# Altium schematic symbol library Resistors.SchLib: 54 symbols (part 1 of 2)
Pins are listed as number, name and electrical type; pins without a type are passive.

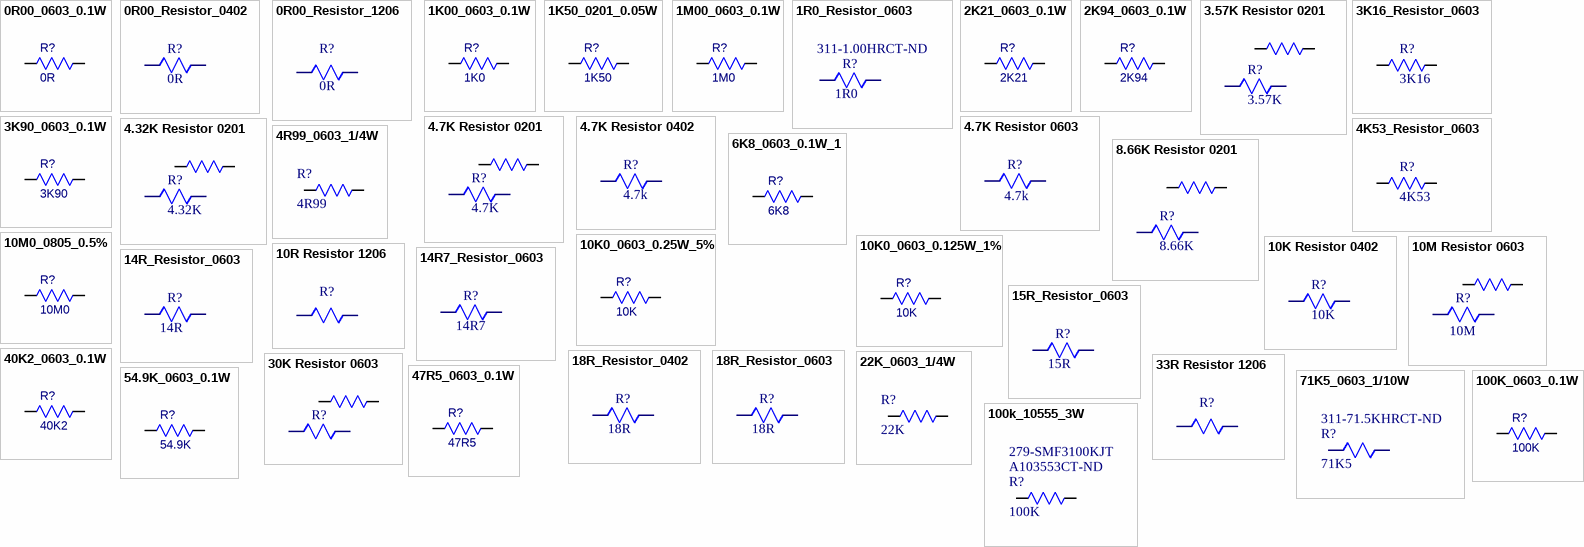
[diagram p0: symbols 0R00_0603_0.1W to 100k_10555_3W]

## 0R00_0603_0.1W
designator R?, comment 0R
RES 0 Ohm JUMPER 0.1W,1/10W 0603; Manufacturer: Panasonic Electronic Components; Manufacturer Part Number: ERJ-3GEY0R00V; Resistance (Ohms): 0.0; ID: 1660684; TZOA PN: 209-00016; Supplier 1: Digi-Key; RoHS: RoHS Compliant; Category: Resistors; Stock 1: 6654719; Pricing 1: 1=0.15, 50=0.019, 100=0.0144, 250=0.01076, 500=0.00794, 1000=0.00529, 2500=0.00446 (CAD); Packaging: Cut Tape (CT); Tolerance: Jumper; Power (Watts): 0.1W, 1/10W; Composition: Thick Film; Features: Automotive AEC-Q200; Temperature Coefficient: -; Operating Temperature: -55°C ~ 155°C; Package / Case: 0603 (1608 Metric); Supplier Device Package: 0603; Size / Dimension: 0.063" L x 0.031" W (1.60mm x 0.80mm); Height: 0.022" (0.55mm); Number of Terminations: 2; ComponentLink1URL: http://industrial.panasonic.com/www-cgi/jvcr13pz.cgi?E+PZ+3+AOA0001+ERJ3GEY0R00V+7+WW; ComponentLink1Description: http://industrial.panasonic.com/www-cgi/jvcr13pz.cgi?E+PZ+3+AOA0001+ERJ3GEY0R00V+7+WW; Supplier 2: Arrow; Stock 2: 305012; Pricing 2: 25000000=0.0021, 50000000=0.0017, 125000000=0.0015, 250000000=0.0014, 625000000=0.0013, 1=0.0023, 25=0.0022 (USD); Package Quantity: 5000; ComponentLink2URL: https://www.arrow.com/en/products/erj3gey0r00v/panasonic/; ComponentLink2Description: https://www.arrow.com/en/products/erj3gey0r00v/panasonic/; Supplier Part Number 1: P0.0GCT-ND; Supplier Part Number 2: ELJD7s1ivwFgYEvemdIWr54eAKhco_O-ofROvxt02Qc
footprint 0603_Resistor (Generic 0603 Surface Mount Resistor)
footprint R1608[0603] small
pins: 1, 2

## 0R00_Resistor_0402
designator R?, comment 0R
RES 0.0 Ohn Jumper 1/16W 0402; Manufacturer: Philips Mepco; Manufacturer Part Number: RC0402JR-070RL; TZOA PN: 209-; Rad Hard: No; Resistance Value: 0 Ohm; Case Style: Molded; Lead Finish: Matte Tin; Supplier 1: Digi-Key; Stock 1: 12066678; Pricing 1: 1=0.1, 10=0.01, 25=0.0068, 50=0.0052, 100=0.0038, 250=0.0029, 500=0.0023, 1000=0.0017, 5000=0.0012 (USD); Case Size: 0402; Type: Thick Film; Operating Temperature: -55 to 155 °C; Category: Resistor Fixed Single-Surface Mount; ComponentLink1URL: https://datasheet.ciiva.com/25906/pyu-rc0402-51-rohs-l-6-25906910.pdf; ComponentLink1Description: https://datasheet.ciiva.com/25906/pyu-rc0402-51-rohs-l-6-25906910.pdf; Supplier Part Number 1: 311-0.0JRCT-ND
footprint 0402 RESISTOR
pins: 1, 2

## 0R00_Resistor_1206
designator R?, comment 0R
RES 0.0 Ohm Jumper 3/4W 1206; Manufacturer: Vishay Dale; Manufacturer Part Number: CRCW12060000Z0EAHP; TZOA PN: 209-00008; Product Training Modules: CRCW-HP Thick Film Chip Resistors; Catalog Drawings: CRCW-HP-402, 603, 805, 1206, 2010, 2512 Top CRCW HP 402, 603, 805, 1206, 2010, 2512 Side; Featured Product: CRCW-HP Series Resistors; EDA / CAD Models: Download from Accelerated Designs; Resistance (Ohms): 0.0; Power (Watts): 0.75W, 3/4W; Online Catalog: CRCW-HP e3 Automotive Series; Other Names: 541-0.0UBCT; Supplier 1: Digi-Key; Stock 1: 0; Pricing 1: 1=0.38, 10=0.275, 25=0.2032, 50=0.15, 100=0.1101, 250=0.0909, 500=0.075, 1000=0.0542 (USD); Standard Package: 1; Category: Resistors; Family: Chip Resistor - Surface Mount; Series: CRCW-HP; Packaging: Cut Tape (CT); Tolerance: Jumper; Composition: Thick Film; Features: Automotive AEC-Q200, Pulse Withstanding; Temperature Coefficient: -; Operating Temperature: -55°C ~ 155°C; Package / Case: 1206 (3216 Metric); Supplier Device Package: 1206 (3216 Metric); Size / Dimension: 0.122" L x 0.063" W (3.10mm x 1.60mm); Height: 0.026" (0.65mm); Number of Terminations: 2; ComponentLink1URL: https://datasheet.ciiva.com/7657/1693067-7657105.pdf; ComponentLink1Description: https://datasheet.ciiva.com/7657/1693067-7657105.pdf; ComponentLink2URL: https://datasheet.ciiva.com/2480/crcwhpe3-2480071.pdf; ComponentLink2Description: https://datasheet.ciiva.com/2480/crcwhpe3-2480071.pdf; ComponentLink3URL: https://datasheet.ciiva.com/2480/crcwhpe3-2480072.pdf; ComponentLink3Description: https://datasheet.ciiva.com/2480/crcwhpe3-2480072.pdf; ComponentLink4URL: https://datasheet.ciiva.com/5550/crcwhpe3-46056-5550920.pdf; ComponentLink4Description: https://datasheet.ciiva.com/5550/crcwhpe3-46056-5550920.pdf; ComponentLink5URL: https://datasheet.ciiva.com/2480/crcwhpe3-2480073.pdf; ComponentLink5Description: https://datasheet.ciiva.com/2480/crcwhpe3-2480073.pdf; ComponentLink6URL: https://datasheet.ciiva.com/7694/1750852-7694953.pdf; ComponentLink6Description: https://datasheet.ciiva.com/7694/1750852-7694953.pdf; ComponentLink7URL: https://datasheet.ciiva.com/9109/crcwhpe3-9109979.pdf; ComponentLink7Description: https://datasheet.ciiva.com/9109/crcwhpe3-9109979.pdf; ComponentLink8URL: https://datasheet.ciiva.com/28621/1912814-28621467.pdf; ComponentLink8Description: https://datasheet.ciiva.com/28621/1912814-28621467.pdf; Supplier Part Number 1: 541-0.0UBCT-ND
footprint 1206
pins: 1, 2

## 1K00_0603_0.1W
designator R?, comment 1K0
RES 1K Ohm ±5%, 0.25W,1/4W 0603; Manufacturer: Rohm; Manufacturer Part Number: ESR03EZPJ102; TZOA PN: 209-00007; Product Training Modules: Resistor Products Overview; Featured Product: ROHM Chip Resistors; EDA / CAD Models: Download from Accelerated Designs; Temperature Coefficient: ±200ppm/°C; Online Catalog: ESR03 Series; Other Names: RHM1.0KDDKR; Supplier 1: Digi-Key; Stock 1: 63701; Pricing 1: 1=0.11, 10=0.098, 100=0.0378, 1000=0.0166, 2500=0.0144 (USD); Standard Package: 1; Category: Resistors; Family: Chip Resistor - Surface Mount; Series: ESR; Packaging: Cut Tape (CT); Resistance (Ohms): 1k; Tolerance: ±5%; Power (Watts): 0.25W, 1/4W; Composition: Thick Film; Features: Automotive AEC-Q200, Pulse Withstanding; Operating Temperature: -55°C ~ 155°C; Package / Case: 0603 (1608 Metric); Supplier Device Package: 0603 (1608 Metric); Size / Dimension: 0.063" L x 0.031" W (1.60mm x 0.80mm); Height: 0.022" (0.55mm); Number of Terminations: 2; ComponentLink1URL: https://datasheet.ciiva.com/2469/esr-2469603.pdf; ComponentLink1Description: https://datasheet.ciiva.com/2469/esr-2469603.pdf; ComponentLink2URL: https://datasheet.ciiva.com/2469/esr-2469604.pdf; ComponentLink2Description: https://datasheet.ciiva.com/2469/esr-2469604.pdf; ComponentLink3URL: https://datasheet.ciiva.com/2469/esr-2469605.pdf; ComponentLink3Description: https://datasheet.ciiva.com/2469/esr-2469605.pdf; Supplier Part Number 1: RHM1.0KDCT-ND
footprint R1608[0603]
footprint R1608[0603] small
pins: 1, 2

## 1K50_0201_0.05W
designator R?, comment 1K50
RES 1.5K ±5% 1/20W 0201; Manufacturer: Panasonic Electronic Components; Manufacturer Part Number: ERJ-1GEJ152C; Power (Watts): 0.05W, 1/20W; Temperature Coefficient: ±200ppm/°C; TZOA PN: 209-; Supplier 1: Digi-Key; Supplier Part Number 1: P1.5KAGCT-ND; RoHS: RoHS Compliant; Category: Resistors; Stock: 288121; Pricing: 1=0.15, 50=0.0358, 100=0.0263, 250=0.02008, 500=0.0161, 1000=0.01184, 5000=0.00849 (CAD); Packaging: Cut Tape (CT); Part Status: Active; Resistance (Ohms): 1.5k; Tolerance: ±5%; Composition: Thick Film; Features: -; Operating Temperature: -55°C ~ 125°C; Package / Case: 0201 (0603 Metric); Supplier Device Package: 0201; Size / Dimension: 0.024" L x 0.012" W (0.60mm x 0.30mm); Height: 0.010" (0.26mm); Number of Terminations: 2; Failure Rate: -; ComponentLink1URL: http://media.digikey.com/pdf/Data%20Sheets/Panasonic%20Resistors%20Thermistors%20PDFs/ERJ%205%25.pdf; ComponentLink1Description: http://media.digikey.com/pdf/Data%20Sheets/Panasonic%20Resistors%20Thermistors%20PDFs/ERJ%205%25.pdf
footprint R1005[0402] (Resistor 1005[0402])
pins: 1, 2

## 1M00_0603_0.1W
designator R?, comment 1M0
RES 1M ±1% 1/10W 0603; Manufacturer: Vishay Beyschlag; Manufacturer Part Number: MCT06030C1004FP500; Power (Watts): 0.125W, 1/8W; Temperature Coefficient: ±50ppm/°C; ID: 2455687; TZOA PN: 209-; Supplier 1: Digi-Key; Supplier Part Number 1: MCT0603-1.00M-CFCT-ND; RoHS: RoHS Compliant; Category: Resistors; Stock: 44405; Pricing: 1=0.26, 10=0.218, 25=0.1588, 50=0.115, 100=0.0853, 250=0.06544, 500=0.05156, 1000=0.03569, 2500=0.03272 (CAD); Packaging: Cut Tape (CT); Tolerance: ±1%; Composition: Thin Film; Features: -; Operating Temperature: -55°C ~ 155°C; Package / Case: 0603 (1608 Metric); Supplier Device Package: 0603; Size / Dimension: 0.061" L x 0.033" W (1.55mm x 0.85mm); Height: 0.022" (0.55mm); Number of Terminations: 2; ComponentLink1URL: http://www.vishay.com/docs/28705/mcx0x0xpro.pdf; ComponentLink1Description: http://www.vishay.com/docs/28705/mcx0x0xpro.pdf; Supplier 2: Arrow; Supplier Part Number 2: sbG3LrZuPBUnByQqwEaRe1CpKCfkgSisGy_5THlLRf2dBM103lIuVfYsfIxZ6Dmo; Package Quantity: 5000; ComponentLink2URL: https://www.arrow.com/en/products/mct06030c1004fp500/vishay/; ComponentLink2Description: https://www.arrow.com/en/products/mct06030c1004fp500/vishay/; Resistance (Ohms): 1M
footprint 0603_Resistor (Generic 0603 Surface Mount Resistor)
pins: 1, 2

## 1R0_Resistor_0603
designator R?, comment 1R0  Supplier Part Number 1: 311-1.00HRCT-ND
RES 1.0 Ohm ±1% 0.1W,1/10W 0603; Manufacturer: Yageo; Manufacturer Part Number: RC0603FR-071RL; TZOA PN: 209-00013; Resistance: 1 Ohms; Power Rating: 100 mW; Voltage Rating: 50 V; Temperature Coefficient: 200 PPM / C; Supplier 1: Digi-Key; Stock 1: 1852120; Pricing 1: 1=0.1, 10=0.022, 100=0.009, 1000=0.004, 2500=0.0035 (USD); Termination Style: SMD/SMT; Product: Thick Film Resistors General Purpose; Tolerance: 1 %; Case Code - in: 0603; Case Code - mm: 1608; Series: RC; Operating Temperature Range: - 55 C to + 155 C; Packaging: Cut Tape (CT); ComponentLink1URL: https://datasheet.ciiva.com/11808/0900766b80f96399-11808162.pdf; ComponentLink1Description: https://datasheet.ciiva.com/11808/0900766b80f96399-11808162.pdf; ComponentLink2URL: https://datasheet.ciiva.com/6547/pyu-r-int-thick-7-6547269.pdf; ComponentLink2Description: https://datasheet.ciiva.com/6547/pyu-r-int-thick-7-6547269.pdf; ComponentLink3URL: https://datasheet.ciiva.com/6547/pyu-r-int-thick-7-6547270.pdf; ComponentLink3Description: https://datasheet.ciiva.com/6547/pyu-r-int-thick-7-6547270.pdf; ComponentLink4URL: https://datasheet.ciiva.com/6547/pyu-r-int-thick-7-6547271.pdf; ComponentLink4Description: https://datasheet.ciiva.com/6547/pyu-r-int-thick-7-6547271.pdf; ComponentLink5URL: https://datasheet.ciiva.com/7746/1738695-7746296.pdf; ComponentLink5Description: https://datasheet.ciiva.com/7746/1738695-7746296.pdf; ComponentLink6URL: https://datasheet.ciiva.com/7746/1738695-7746297.pdf; ComponentLink6Description: https://datasheet.ciiva.com/7746/1738695-7746297.pdf
footprint R1608[0603]
footprint R1608[0603] small
pins: 1, 2

## 2K21_0603_0.1W
designator R?, comment 2K21
RES 2.21K Ohm ±1% 0.1W,1/10W 0603; Manufacturer: Yageo; Manufacturer Part Number: RC0603FR-072K21L; Tolerance: Jumper; ID: 1660684; TZOA PN: 209-00010; Supplier 1: Digi-Key; RoHS: RoHS Compliant; Category: Resistors; Pricing 1: 1=0.15, 50=0.019, 100=0.0144, 250=0.01076, 500=0.00794, 1000=0.00529, 2500=0.00446 (CAD); Packaging: Cut Tape (CT); Resistance (Ohms): 2.21K; Power (Watts): 0.1W, 1/10W; Composition: Thick Film; Features: Automotive AEC-Q200; Temperature Coefficient: -; Operating Temperature: -55°C ~ 155°C; Package / Case: 0603 (1608 Metric); Supplier Device Package: 0603; Size / Dimension: 0.063" L x 0.031" W (1.60mm x 0.80mm); Height: 0.022" (0.55mm); Number of Terminations: 2; Supplier 2: Arrow; Pricing 2: 25000000=0.0021, 50000000=0.0017, 125000000=0.0015, 250000000=0.0014, 625000000=0.0013, 1=0.0023, 25=0.0022 (USD); Package Quantity: 5000; Supplier Part Number 1: 311-2.21KHRCT-ND
footprint R1608[0603]
footprint R1608[0603] small
pins: 1, 2

## 2K94_0603_0.1W
designator R?, comment 2K94
RES 2.94K 1% 1/10W 0603; Manufacturer: Yageo; Manufacturer Part Number: RC0603FR-07294KL; TZOA PN: 209-; Resistance: 294 kOhms; Power Rating: 100 mW; Temperature Coefficient: 100 PPM / C; Voltage Rating: 75 V; Unit Weight: 0.000071 oz; Supplier 1: Digi-Key; Stock 1: 49374; Pricing 1: 1=0.1, 10=0.015, 100=0.006, 1000=0.0027, 2500=0.0023 (USD); Product Category: Thick Film Resistors; RoHS: True; Brand: Yageo; Tolerance: 1 %; Case Code - in: 0603; Case Code - mm: 1608; Operating Temperature Range: - 55 C to + 155 C; Series: RC; Height: 0.45 mm; Length: 1.6 mm; Package / Case: 0603 (1608 metric); Packaging: Cut Tape (CT); Product: Thick Film Resistors General Purpose; Termination Style: SMD/SMT; Type: General Purpose Chip Resistor Surface Mount; Width: 0.8 mm; ComponentLink1URL: https://datasheet.ciiva.com/2455/pyu-r-int-thick-7-2455212.pdf; ComponentLink1Description: https://datasheet.ciiva.com/2455/pyu-r-int-thick-7-2455212.pdf; ComponentLink2URL: https://datasheet.ciiva.com/2455/pyu-r-int-thick-7-2455213.pdf; ComponentLink2Description: https://datasheet.ciiva.com/2455/pyu-r-int-thick-7-2455213.pdf; ComponentLink3URL: https://datasheet.ciiva.com/2455/pyu-r-int-thick-7-2455214.pdf; ComponentLink3Description: https://datasheet.ciiva.com/2455/pyu-r-int-thick-7-2455214.pdf; Supplier Part Number 1: 311-294KHRCT-ND
footprint 0201 RESISTOR
pins: 1, 2

## 3.57K Resistor 0201
designator R?, comment 3.57K
Manufacturer: Panasonic Electronic Components; Manufacturer Part Number: ERJ-1GEF3571C; Tolerance: ±1%; Power (Watts): 0.05W, 1/20W; Temperature Coefficient: ±200ppm/°C; Supplier 1: Digi-Key; Supplier Part Number 1: P3.57KABCT-ND; RoHS: RoHS Compliant; Category: Resistors; Stock: 38821; Pricing: 1=0.15, 50=0.0424, 100=0.0313, 250=0.02384, 500=0.01908, 1000=0.01403, 5000=0.01006 (CAD); Packaging: Cut Tape (CT); Part Status: Active; Resistance (Ohms): 3.57k; Composition: Thick Film; Features: -; Operating Temperature: -55°C ~ 125°C; Package / Case: 0201 (0603 Metric); Supplier Device Package: 0201; Size / Dimension: 0.024" L x 0.012" W (0.60mm x 0.30mm); Height: 0.010" (0.26mm); Number of Terminations: 2; Failure Rate: -; ComponentLink1URL: http://media.digikey.com/pdf/Data%20Sheets/Panasonic%20Resistors%20Thermistors%20PDFs/ERJ_G,R,E_Rev08.pdf; ComponentLink1Description: http://media.digikey.com/pdf/Data%20Sheets/Panasonic%20Resistors%20Thermistors%20PDFs/ERJ_G,R,E_Rev08.pdf
footprint 0201 RESISTOR
pins: 1, 1, 2, 2

## 3K16_Resistor_0603
designator R?, comment 3K16
Res,SMD,1/10W,3K16,0603,1%; Supplier 1: Arrow; Supplier 2: Digi-Key; Supplier Part Number 1: RMCF0603FT3K16; Supplier Part Number 2: RMCF0603FT3K16CT-ND
footprint R1608[0603] small
pins: 1, 2

## 3K90_0603_0.1W
designator R?, comment 3K90
RES 3.9K Ohm ±1% 0.1W,1/10W 0603; Manufacturer: Yageo; Manufacturer Part Number: RC0603FR-073K9L; TZOA PN: 209-00006; Voltage Rating: 50V; Resistor Case Style: 0603 [1608 Metric]; Power Rating: 100mW; Product Range: RC Series; Resistor Element Type: Thick Film; Temperature Coefficient: ± 100ppm/°C; SVHC: To Be Advised; Supplier 1: Digi-Key; Stock 1: 730672; Pricing 1: 1=0.1, 10=0.015, 100=0.006, 1000=0.0027, 2500=0.0023 (USD); Resistance: 3.9kohm; Resistance Tolerance: ± 1%; Packaging: Cut Tape; Automotive Qualification Standard: -; MSL: MSL 1 - Unlimited; ComponentLink1URL: https://datasheet.ciiva.com/2455/pyu-r-int-thick-7-2455362.pdf; ComponentLink1Description: https://datasheet.ciiva.com/2455/pyu-r-int-thick-7-2455362.pdf; ComponentLink2URL: https://datasheet.ciiva.com/11819/0900766b80f96399-11819346.pdf; ComponentLink2Description: https://datasheet.ciiva.com/11819/0900766b80f96399-11819346.pdf; ComponentLink3URL: https://datasheet.ciiva.com/2455/pyu-r-int-thick-7-2455363.pdf; ComponentLink3Description: https://datasheet.ciiva.com/2455/pyu-r-int-thick-7-2455363.pdf; ComponentLink4URL: https://datasheet.ciiva.com/2455/pyu-r-int-thick-7-2455364.pdf; ComponentLink4Description: https://datasheet.ciiva.com/2455/pyu-r-int-thick-7-2455364.pdf; ComponentLink5URL: https://datasheet.ciiva.com/7983/443971-7983640.pdf; ComponentLink5Description: https://datasheet.ciiva.com/7983/443971-7983640.pdf; ComponentLink6URL: https://datasheet.ciiva.com/12558/rc0603-272842-12558649.pdf; ComponentLink6Description: https://datasheet.ciiva.com/12558/rc0603-272842-12558649.pdf; ComponentLink7URL: https://datasheet.ciiva.com/7746/443971-7746347.pdf; ComponentLink7Description: https://datasheet.ciiva.com/7746/443971-7746347.pdf; ComponentLink8URL: https://datasheet.ciiva.com/7746/443971-7746348.pdf; ComponentLink8Description: https://datasheet.ciiva.com/7746/443971-7746348.pdf; ComponentLink9URL: https://datasheet.ciiva.com/15189/getdatasheetpartid-323794-15189725.pdf; ComponentLink9Description: https://datasheet.ciiva.com/15189/getdatasheetpartid-323794-15189725.pdf; Supplier Part Number 1: 311-3.90KHRCT-ND
footprint R1608[0603]
footprint R1608[0603] small
pins: 1, 2

## 4.7K Resistor 0201
designator R?, comment 4.7K
Manufacturer: Panasonic Electronic Components; Manufacturer Part Number: ERJ-1GNJ472C; Tolerance: ±5%; Power (Watts): 0.05W, 1/20W; Temperature Coefficient: ±200ppm/°C; Supplier 1: Digi-Key; Supplier Part Number 1: P4.7AECT-ND; RoHS: RoHS Compliant; Category: Resistors; Stock: 201745; Pricing: 1=0.15, 50=0.0292, 100=0.0215, 250=0.01636, 500=0.01312, 1000=0.00964, 5000=0.00692 (CAD); Packaging: Cut Tape (CT); Part Status: Active; Resistance (Ohms): 4.7k; Composition: Thick Film; Features: Automotive AEC-Q200; Operating Temperature: -55°C ~ 125°C; Package / Case: 0201 (0603 Metric); Supplier Device Package: 0201; Size / Dimension: 0.024" L x 0.012" W (0.60mm x 0.30mm); Height: 0.010" (0.26mm); Number of Terminations: 2; Failure Rate: -; ComponentLink1URL: http://industrial.panasonic.com/www-cgi/jvcr13pz.cgi?E+PZ+3+AOA0002+ERJ1GNJ472C+7+WW; ComponentLink1Description: http://industrial.panasonic.com/www-cgi/jvcr13pz.cgi?E+PZ+3+AOA0002+ERJ1GNJ472C+7+WW
footprint 0201 RESISTOR
pins: 1, 1, 2, 2

## 4.7K Resistor 0402
designator R?, comment 4.7k
Thick Film Resistor; Manufacturer: Panasonic Electronic Components; Manufacturer Part Number: ERJ-2RKF4701X; Tolerance: ±1%; Power (Watts): 0.1W, 1/10W; Temperature Coefficient: ±100ppm/°C; Supplier 1: Digi-Key; Supplier Part Number 1: P4.70KLCT-ND; RoHS: RoHS Compliant; Category: Resistors; Stock: 1564275; Pricing: 1=0.15, 50=0.0226, 100=0.0166, 250=0.01264, 500=0.01014, 1000=0.00746, 5000=0.00535 (CAD); Packaging: Cut Tape (CT); Part Status: Active; Resistance (Ohms): 4.7k; Composition: Thick Film; Features: Automotive AEC-Q200; Operating Temperature: -55°C ~ 155°C; Package / Case: 0402 (1005 Metric); Supplier Device Package: 0402; Size / Dimension: 0.039" L x 0.020" W (1.00mm x 0.50mm); Height: 0.016" (0.40mm); Number of Terminations: 2; Failure Rate: -; ComponentLink1URL: http://industrial.panasonic.com/www-cgi/jvcr13pz.cgi?E+PZ+3+AOA0002+ERJ2RKF4701X+7+WW; ComponentLink1Description: http://industrial.panasonic.com/www-cgi/jvcr13pz.cgi?E+PZ+3+AOA0002+ERJ2RKF4701X+7+WW
footprint 0402 RESISTOR
pins: 1, 2

## 4.7K Resistor 0603
designator R?  Resistance (Ohms): 4.7k  (hidden comment: *)
Thick Film Resistor; Manufacturer: Panasonic Electronic Components; Manufacturer Part Number: ERJ-PA3J103V; Tolerance: ±5%; Power (Watts): 0.25W, 1/4W; Temperature Coefficient: ±200ppm/°C; ID: 24182372; RoHS: RoHS Compliant; Category: Resistors; Packaging: Cut Tape (CT); Composition: Thick Film; Features: Automotive AEC-Q200, Pulse Withstanding; Operating Temperature: -55°C ~ 155°C; Package / Case: 0603 (1608 Metric); Supplier Device Package: 0603; Size / Dimension: 0.063" L x 0.031" W (1.60mm x 0.80mm); Height: 0.018" (0.45mm); Number of Terminations: 2; ComponentLink1URL: http://media.digikey.com/pdf/Data%20Sheets/Panasonic%20Electronic%20Components/ERJ_PA2_P03_PA3_P06_P08_P14.pdf; ComponentLink1Description: http://media.digikey.com/pdf/Data%20Sheets/Panasonic%20Electronic%20Components/ERJ_PA2_P03_PA3_P06_P08_P14.pdf; Package Quantity: 1; ComponentLink2URL: https://www.arrow.com/en/products/erj-pa3j103v/panasonic/; ComponentLink2Description: https://www.arrow.com/en/products/erj-pa3j103v/panasonic/; Supplier 1: Digi-Key; Supplier Part Number 1: P4.70KHCT-ND
footprint 0603 Resistor
pins: 1, 2

## 4.32K Resistor 0201
designator R?, comment 4.32K
Manufacturer: Panasonic Electronic Components; Manufacturer Part Number: ERJ-1GEF4321C; Tolerance: ±1%; Power (Watts): 0.05W, 1/20W; Temperature Coefficient: ±200ppm/°C; Supplier 1: Digi-Key; Supplier Part Number 1: P4.32KABCT-ND; RoHS: RoHS Compliant; Category: Resistors; Stock: 52062; Pricing: 1=0.15, 50=0.0424, 100=0.0313, 250=0.02384, 500=0.01908, 1000=0.01403, 5000=0.01006 (CAD); Packaging: Cut Tape (CT); Part Status: Active; Resistance (Ohms): 4.32k; Composition: Thick Film; Features: -; Operating Temperature: -55°C ~ 125°C; Package / Case: 0201 (0603 Metric); Supplier Device Package: 0201; Size / Dimension: 0.024" L x 0.012" W (0.60mm x 0.30mm); Height: 0.010" (0.26mm); Number of Terminations: 2; Failure Rate: -; ComponentLink1URL: http://media.digikey.com/pdf/Data%20Sheets/Panasonic%20Resistors%20Thermistors%20PDFs/ERJ_G,R,E_Rev08.pdf; ComponentLink1Description: http://media.digikey.com/pdf/Data%20Sheets/Panasonic%20Resistors%20Thermistors%20PDFs/ERJ_G,R,E_Rev08.pdf
footprint 0201 RESISTOR
pins: 1, 1, 2, 2

## 4K53_Resistor_0603
designator R?, comment 4K53
Res,SMD,4K53,1/10W,1%,0603; Supplier 1: Arrow; Supplier 2: Digi-Key; Supplier Part Number 1: RC0603FR-074K53L; Supplier Part Number 2: 311-4.53KHRCT-ND
footprint R1608[0603] small
pins: 1, 2

## 4R99_0603_1/4W
designator R?, comment 4R99
Res,SMD,4R99,1/4W,5%
footprint R1608[0603]
pins: 1, 2

## 6K8_0603_0.1W_1
designator R?, comment 6K8
Res,SMD,1/10W,6K8,0603,1%; Manufacturer: Yageo; Manufacturer Part Number: RC0603FR-07680KL; Voltage Rating: 50 V; Temperature Coefficient: 100 PPM / C; Resistance: 680 kOhms; Power Rating: 100 mW; Termination Style: SMD/SMT; Tolerance: 1 %; Supplier 1: Digikey; Stock 1: 238323; Pricing 1: 1=0.1, 10=0.015, 100=0.006, 1000=0.0027, 2500=0.0023 (USD); Product: Thick Film Resistors General Purpose; Case Code - in: 0603; Case Code - mm: 1608; Series: RC; Operating Temperature Range: - 55 C to + 155 C; Packaging: Cut tape; ComponentLink1URL: https://datasheet.ciiva.com/2519/pyu-r-int-thick-7-2519200.pdf; ComponentLink1Description: https://datasheet.ciiva.com/2519/pyu-r-int-thick-7-2519200.pdf; ComponentLink2URL: https://datasheet.ciiva.com/11808/0900766b80f96399-11808403.pdf; ComponentLink2Description: https://datasheet.ciiva.com/11808/0900766b80f96399-11808403.pdf; ComponentLink3URL: https://datasheet.ciiva.com/15189/getdatasheetpartid-323816-15189798.pdf; ComponentLink3Description: https://datasheet.ciiva.com/15189/getdatasheetpartid-323816-15189798.pdf; ComponentLink4URL: https://datasheet.ciiva.com/2519/pyu-r-int-thick-7-2519198.pdf; ComponentLink4Description: https://datasheet.ciiva.com/2519/pyu-r-int-thick-7-2519198.pdf; ComponentLink5URL: https://datasheet.ciiva.com/2519/pyu-r-int-thick-7-2519199.pdf; ComponentLink5Description: https://datasheet.ciiva.com/2519/pyu-r-int-thick-7-2519199.pdf; ComponentLink6URL: https://datasheet.ciiva.com/46440/1868787-46440911.pdf; ComponentLink6Description: https://datasheet.ciiva.com/46440/1868787-46440911.pdf; Supplier Part Number 1: 311-680KHRCT-ND
footprint R1608[0603]
pins: 1, 2

## 8.66K Resistor 0201
designator R?, comment 8.66K
Manufacturer: Panasonic Electronic Components; Manufacturer Part Number: ERJ-1GEF8661C; Tolerance: ±1%; Power (Watts): 0.05W, 1/20W; Temperature Coefficient: ±200ppm/°C; Supplier 1: Digi-Key; Supplier Part Number 1: P8.66KABCT-ND; RoHS: RoHS Compliant; Category: Resistors; Stock: 45462; Pricing: 1=0.15, 50=0.0424, 100=0.0313, 250=0.02384, 500=0.01908, 1000=0.01403, 5000=0.01006 (CAD); Packaging: Cut Tape (CT); Part Status: Active; Resistance (Ohms): 8.66k; Composition: Thick Film; Features: -; Operating Temperature: -55°C ~ 125°C; Package / Case: 0201 (0603 Metric); Supplier Device Package: 0201; Size / Dimension: 0.024" L x 0.012" W (0.60mm x 0.30mm); Height: 0.010" (0.26mm); Number of Terminations: 2; Failure Rate: -; ComponentLink1URL: http://media.digikey.com/pdf/Data%20Sheets/Panasonic%20Resistors%20Thermistors%20PDFs/ERJ_G,R,E_Rev08.pdf; ComponentLink1Description: http://media.digikey.com/pdf/Data%20Sheets/Panasonic%20Resistors%20Thermistors%20PDFs/ERJ_G,R,E_Rev08.pdf
footprint 0201 RESISTOR
pins: 1, 1, 2, 2

## 10K0_0603_0.25W_5%
designator R?, comment 10K
RES 10K Ohm ±5% 0.25W,1/4W 0603; Manufacturer: Panasonic; Manufacturer Part Number: ERJ-PA3J103V; TZOA PN: 209-00002; Temperature Coefficient: ±200ppm/°C; Supplier 1: Digi-Key; Stock 1: 95; Pricing 1: 1=0.11, 10=0.1, 100=0.0384, 1000=0.0169, 2500=0.0146 (USD); Category: Resistors; Family: Chip Resistor - Surface Mount; Series: ERJ; Packaging: Cut Tape (CT); Resistance (Ohms): 10k; Tolerance: ±5%; Power (Watts): 0.25W, 1/4W; Composition: Thick Film; Features: Automotive AEC-Q200, Pulse Withstanding; Operating Temperature: -55°C ~ 155°C; Package / Case: 0603 (1608 Metric); Supplier Device Package: 0603; Size / Dimension: 0.063" L x 0.031" W (1.60mm x 0.80mm); Height: 0.018" (0.45mm); Number of Terminations: 2; Supplier Part Number 1: P10KBZCT-ND
footprint R1608[0603]
footprint R1608[0603] small
pins: 1, 2

## 10K0_0603_0.125W_1%
designator R?, comment 10K
RES 10K Ohm ±1%  0.125W,1/8W 0603; Manufacturer: Stackpole Electronics; Manufacturer Part Number: RNCP0603FTD10K0; TZOA PN: 209-00018; Temperature Coefficient: ±100ppm/°C; Supplier 1: Digi-Key; Stock 1: 152748; Pricing 1: 1=0.1, 10=0.03, 100=0.0123, 1000=0.0055, 2500=0.0048 (USD); Category: Resistors; Family: Chip Resistor - Surface Mount; Series: RNCP; Packaging: Cut Tape (CT); Resistance (Ohms): 10k; Tolerance: ±1%; Power (Watts): 0.125W, 1/8W; Composition: Thin Film; Features: Anti-Sulfur, Moisture Resistant; Operating Temperature: -55°C ~ 155°C; Package / Case: 0603 (1608 Metric); Supplier Device Package: 0603; Size / Dimension: 0.059" L x 0.031" W (1.50mm x 0.80mm); Height: 0.020" (0.50mm); Number of Terminations: 2; ComponentLink1URL: https://www.seielect.com/Catalog/SEI-rncp.pdf; ComponentLink1Description: https://www.seielect.com/Catalog/SEI-rncp.pdf; Supplier Part Number 1: RNCP0603FTD10K0CT-ND
footprint R1608[0603]
footprint R1608[0603] small
pins: 1, 2

## 10K Resistor 0402
designator R?, comment 10K
RES 10K 1% 1/16W 0402; Manufacturer: Yageo; Manufacturer Part Number: RC0402FR-0710KL; Resistance: 10 kOhms; Power Rating: 62.5 mW (1/16 W); Voltage Rating: 50 V; Temperature Coefficient: 100 PPM / C; Supplier 1: Digi-Key; Stock 1: 14322538; Pricing 1: 1=0.1, 10=0.014, 100=0.0056, 1000=0.0025, 2500=0.0022, 5000=0.0018 (USD); Termination Style: SMD/SMT; Product: Thick Film Resistors General Purpose; Tolerance: 1 %; Case Code - in: 0402; Case Code - mm: 1005; Series: RC; Operating Temperature Range: - 55 C to + 155 C; Packaging: Cut Tape (CT); ComponentLink1URL: https://datasheet.ciiva.com/7660/38568-7660787.pdf; ComponentLink1Description: https://datasheet.ciiva.com/7660/38568-7660787.pdf; ComponentLink2URL: https://datasheet.ciiva.com/7849/1784430-7849813.pdf; ComponentLink2Description: https://datasheet.ciiva.com/7849/1784430-7849813.pdf; ComponentLink3URL: https://datasheet.ciiva.com/11808/0900766b80c66297-11808309.pdf; ComponentLink3Description: https://datasheet.ciiva.com/11808/0900766b80c66297-11808309.pdf; ComponentLink4URL: https://datasheet.ciiva.com/16744/pyu-rc0402-51-rohs-l-6-r-16744005.pdf; ComponentLink4Description: https://datasheet.ciiva.com/16744/pyu-rc0402-51-rohs-l-6-r-16744005.pdf; ComponentLink5URL: https://datasheet.ciiva.com/7849/1686128-7849814.pdf; ComponentLink5Description: https://datasheet.ciiva.com/7849/1686128-7849814.pdf; ComponentLink6URL: https://datasheet.ciiva.com/7849/1784430-7849815.pdf; ComponentLink6Description: https://datasheet.ciiva.com/7849/1784430-7849815.pdf; ComponentLink7URL: https://datasheet.ciiva.com/22747/1018594-22747512.pdf; ComponentLink7Description: https://datasheet.ciiva.com/22747/1018594-22747512.pdf; ComponentLink8URL: https://datasheet.ciiva.com/12667/pyu-rc0402-51-rohs-l-6-r-12667067.pdf; ComponentLink8Description: https://datasheet.ciiva.com/12667/pyu-rc0402-51-rohs-l-6-r-12667067.pdf; ComponentLink9URL: https://datasheet.ciiva.com/7983/1018594-7983486.pdf; ComponentLink9Description: https://datasheet.ciiva.com/7983/1018594-7983486.pdf; Supplier Part Number 1: 311-10.0KLRCT-ND
footprint 0402 RESISTOR
pins: 1, 2

## 10M0_0805_0.5%
designator R?, comment 10M0
RES 10M Ohm ±1% 0.125W,1/8W 0805; Manufacturer: Vishay Dale; Manufacturer Part Number: CRCW080510M0DHEAP; Tolerance: ±0.5%; Temperature Coefficient: ±50ppm/°C; TZOA PN: 209-00003; Supplier 1: Digi-Key; Supplier Part Number 1: 541-10MAZCT-ND; RoHS: RoHS Compliant; Category: Resistors; Stock: 830; Pricing: 1=0.44, 10=0.364, 25=0.2644, 50=0.1916, 100=0.1421, 250=0.10904, 500=0.08592, 1000=0.05948, 2500=0.05452 (CAD); Packaging: Cut Tape (CT); Power (Watts): 0.125W, 1/8W; Composition: Thick Film; Features: Automotive AEC-Q200; Operating Temperature: -55°C ~ 155°C; Package / Case: 0805 (2012 Metric); Supplier Device Package: 0805; Size / Dimension: 0.079" L x 0.049" W (2.00mm x 1.25mm); Height: 0.020" (0.50mm); Number of Terminations: 2; ComponentLink1URL: http://www.vishay.com/docs/20036/dcrcwpe3.pdf; ComponentLink1Description: http://www.vishay.com/docs/20036/dcrcwpe3.pdf; Resistance (Ohms): 10M
footprint R2012[0805]_ANLG (3DModel=0805.ogl)
pins: 1, 2

## 10M Resistor 0603
designator R?  Resistance (Ohms): 10M  (hidden comment: *)
Thick Film Resistor; Manufacturer: Vishay Beyschlag; Manufacturer Part Number: MCT06030C1005FP500; Tolerance: ±1%; Power (Watts): 0.125W, 1/8W; Temperature Coefficient: ±50ppm/°C; Supplier 1: Digi-Key; RoHS: RoHS Compliant; Category: Resistors; Stock 1: 47812; Pricing 1: 1=0.39, 10=0.327, 25=0.238, 50=0.1724, 100=0.1278, 250=0.09816, 500=0.07732, 1000=0.05353, 2500=0.04908 (CAD); Packaging: Cut Tape (CT); Composition: Thin Film; Features: -; Operating Temperature: -55°C ~ 155°C; Package / Case: 0603 (1608 Metric); Supplier Device Package: 0603; Size / Dimension: 0.061" L x 0.033" W (1.55mm x 0.85mm); Height: 0.022" (0.55mm); Number of Terminations: 2; ComponentLink1URL: http://www.vishay.com/docs/28705/mcx0x0xpro.pdf; ComponentLink1Description: http://www.vishay.com/docs/28705/mcx0x0xpro.pdf; Supplier Part Number 1: MCT0603-10.0M-CFCT-ND
footprint R1608[0603] small
footprint R1608[0603]
pins: 1, 1, 2, 2

## 10R Resistor 1206
designator R?  (value not drawn)
3/4W Resistor; Manufacturer: Vishay / Dale; Manufacturer Part Number: CRCW120610R0JNEAHP; Product Training Modules: CRCW-HP Thick Film Chip Resistors; Catalog Drawings: CRCW-HP-402, 603, 805, 1206, 2010, 2512 Top CRCW HP 402, 603, 805, 1206, 2010, 2512 Side; Featured Product: CRCW-HP Series Resistors; EDA / CAD Models: Download from Accelerated Designs; Resistance (Ohms): 10; Tolerance: ±5%; Power (Watts): 0.5W, 1/2W; Temperature Coefficient: ±200ppm/°C; Online Catalog: CRCW-HP e3 Automotive Series; Other Names: 541-10UADKR; TZOA PN: 209-00008; Supplier 1: Digikey; Stock 1: 30705; Pricing 1: 1=0.44, 10=0.316, 100=0.1266, 1000=0.0624, 2500=0.0578 (USD); Standard Package: 1; Category: Resistors; Family: Chip Resistor - Surface Mount; Series: CRCW-HP; Packaging: Cut Tape (CT); Composition: Thick Film; Features: Automotive AEC-Q200, Pulse Withstanding; Operating Temperature: -55°C ~ 155°C; Package / Case: 1206 (3216 Metric); Supplier Device Package: 1206 (3216 Metric); Size / Dimension: 0.122" L x 0.063" W (3.10mm x 1.60mm); Height: 0.026" (0.65mm); Number of Terminations: 2; ComponentLink1URL: https://datasheet.ciiva.com/5562/crcwhpe3-46056-5562071.pdf; ComponentLink1Description: https://datasheet.ciiva.com/5562/crcwhpe3-46056-5562071.pdf; ComponentLink2URL: https://datasheet.ciiva.com/2480/crcwhpe3-2480107.pdf; ComponentLink2Description: https://datasheet.ciiva.com/2480/crcwhpe3-2480107.pdf; ComponentLink3URL: https://datasheet.ciiva.com/2480/crcwhpe3-2480108.pdf; ComponentLink3Description: https://datasheet.ciiva.com/2480/crcwhpe3-2480108.pdf; ComponentLink4URL: https://datasheet.ciiva.com/2480/crcwhpe3-2480109.pdf; ComponentLink4Description: https://datasheet.ciiva.com/2480/crcwhpe3-2480109.pdf; ComponentLink5URL: https://datasheet.ciiva.com/48526/crcwhpe3-48526638.pdf; ComponentLink5Description: https://datasheet.ciiva.com/48526/crcwhpe3-48526638.pdf; Supplier Part Number 1: 541-10UACT-ND
footprint 1206
pins: 1, 2

## 14R7_Resistor_0603
designator R?, comment 14R7
RES 14.7 Ohm ±1% 0.1W,1/10W 0603; Manufacturer: Yageo; Manufacturer Part Number: RC0603FR-0714R7L; TZOA PN: 209-00015; Resistance: 14.7 Ohms; Power Rating: 100 mW; Temperature Coefficient: 100 PPM / C; Voltage Rating: 75 V; Unit Weight: 0.000071 oz; Supplier 1: Digi-Key; Stock 1: 47489; Pricing 1: 1=0.1, 10=0.015, 100=0.006, 1000=0.0027, 2500=0.0023 (USD); Product Category: Thick Film Resistors; RoHS: True; Brand: Yageo; Tolerance: 1 %; Case Code - in: 0603; Case Code - mm: 1608; Operating Temperature Range: - 55 C to + 155 C; Series: RC; Height: 0.45 mm; Length: 1.6 mm; Package / Case: 0603 (1608 metric); Packaging: Cut Tape (CT); Product: Thick Film Resistors General Purpose; Termination Style: SMD/SMT; Type: General Purpose Chip Resistor Surface Mount; Width: 0.8 mm; ComponentLink1URL: https://datasheet.ciiva.com/2455/pyu-r-int-thick-7-2455347.pdf; ComponentLink1Description: https://datasheet.ciiva.com/2455/pyu-r-int-thick-7-2455347.pdf; ComponentLink2URL: https://datasheet.ciiva.com/2455/pyu-r-int-thick-7-2455348.pdf; ComponentLink2Description: https://datasheet.ciiva.com/2455/pyu-r-int-thick-7-2455348.pdf; ComponentLink3URL: https://datasheet.ciiva.com/2455/pyu-r-int-thick-7-2455349.pdf; ComponentLink3Description: https://datasheet.ciiva.com/2455/pyu-r-int-thick-7-2455349.pdf; Supplier Part Number 1: 311-14.7HRCT-ND
footprint R1608[0603] small
footprint R1608[0603]
pins: 1, 2

## 14R_Resistor_0603
designator R?, comment 14R
RES 14.0 Ohm ±1% 0.1W,1/10W 0603; Manufacturer: Yageo; Manufacturer Part Number: RC0603FR-0714RL; TZOA PN: 209-; Product Training Modules: Chip Resistor; Catalog Drawings: Thick Film Resistor Side; PCN Other: RC/AC 0603/0805/1206 22/Jan/2013; HTML Datasheet: RC Series, L Suffix Datasheet.html; EDA / CAD Models: Download from Accelerated Designs; Resistance (Ohms): 14; Temperature Coefficient: ±100ppm/°C; Online Catalog: RC0603 Series; Kits: PHH2-KIT-ND  - RES KIT 10-97.6 1/10W 5650PCS; Other Names: 311-14.0HRCT; Supplier 1: Digi-Key; Stock 1: 102814; Pricing 1: 1=0.1, 10=0.015, 100=0.006, 1000=0.0027, 2500=0.0023 (USD); Standard Package: 1; Category: Resistors; Family: Chip Resistor - Surface Mount; Series: RC; Packaging: Cut Tape (CT); Tolerance: ±1%; Power (Watts): 0.1W, 1/10W; Composition: Thick Film; Features: Moisture Resistant; Operating Temperature: -55°C ~ 155°C; Package / Case: 0603 (1608 Metric); Supplier Device Package: 0603; Size / Dimension: 0.063" L x 0.031" W (1.60mm x 0.80mm); Height: 0.022" (0.55mm); Number of Terminations: 2; ComponentLink1URL: https://datasheet.ciiva.com/2454/pyu-r-int-thick-7-2454834.pdf; ComponentLink1Description: https://datasheet.ciiva.com/2454/pyu-r-int-thick-7-2454834.pdf; ComponentLink2URL: https://datasheet.ciiva.com/2454/pyu-r-int-thick-7-2454835.pdf; ComponentLink2Description: https://datasheet.ciiva.com/2454/pyu-r-int-thick-7-2454835.pdf; ComponentLink3URL: https://datasheet.ciiva.com/2454/pyu-r-int-thick-7-2454836.pdf; ComponentLink3Description: https://datasheet.ciiva.com/2454/pyu-r-int-thick-7-2454836.pdf; ComponentLink4URL: https://datasheet.ciiva.com/12558/rc0603-272842-12558550.pdf; ComponentLink4Description: https://datasheet.ciiva.com/12558/rc0603-272842-12558550.pdf; Supplier Part Number 1: 311-14.0HRCT-ND
footprint R1608[0603] small
footprint R1608[0603]
pins: 1, 2

## 15R_Resistor_0603
designator R?, comment 15R
RES 15.0 Ohm ±1% 0.1W,1/10W 0603; Manufacturer: Philips Mepco; Manufacturer Part Number: RC0603FR-0715RL; TZOA PN: 209-; Rad Hard: No; Resistance Value: 15 Ohm; Case Style: Molded; Temperature Coefficient: ±100 ppm/°C; Lead Finish: Matte Tin; Supplier 1: Digi-Key; Stock 1: 292366; Pricing 1: 1=0.1, 10=0.015, 100=0.006, 1000=0.0027, 2500=0.0023 (USD); Case Size: 0603; Type: Thick Film; Tolerance: 1 %; Power Rating: 1/10 W; Operating Temperature: -55 to 155 °C; Category: Resistor Fixed Single-Surface Mount; ComponentLink1URL: http://www.yageo.com/documents/recent/PYu-RC0603_51_RoHS_L_5.pdf; ComponentLink1Description: http://www.yageo.com/documents/recent/PYu-RC0603_51_RoHS_L_5.pdf; Supplier Part Number 1: 311-15.0HRCT-ND
footprint R1608[0603] small
footprint R1608[0603]
pins: 1, 2

## 18R_Resistor_0402
designator R?, comment 18R
Thick Film Resistor; Manufacturer: Yageo; Manufacturer Part Number: RC0402FR-0718RL; Resistance (Ohms): 18 Ohm; Tolerance: ±1%; Power (Watts): 0.063W, 1/16W; Temperature Coefficient: ±100ppm/°C; Supplier 1: Digi-Key; Supplier Part Number 1: YAG3021CT-ND; RoHS: RoHS Compliant; Category: Resistors; Stock: 152000; Pricing: 1=0.10, 10=0.014, 100=0.0055, 1000=0.0025, 5000=0.0018 (USD); Packaging: Cut Tape (CT); Part Status: Active; Composition: Thick Film; Operating Temperature: -55°C ~ 155°C; Package / Case: 0402 (1005 Metric); Supplier Device Package: 0402; Size / Dimension: 0.039" L x 0.020" W (1.00mm x 0.50mm); Height: 0.016" (0.40mm); Number of Terminations: 2; Failure Rate: -; ComponentLink1URL: http://www.yageo.com/documents/recent/PYu-RC_Group_51_RoHS_L_7.pdf; ComponentLink1Description: http://www.yageo.com/documents/recent/PYu-RC_Group_51_RoHS_L_7.pdf
footprint 0402 RESISTOR
pins: 1, 2

## 18R_Resistor_0603
designator R?, comment 18R
RES 18.0 Ohm ±1% 0.1W,1/10W 0603; Manufacturer: Yageo; Manufacturer Part Number: RC0603FR-0718RL; Resistance (Ohms): 18 Ohm; Temperature Coefficient: ±100ppm/°C; TZOA PN: 209-00014; Supplier 1: Digi-Key; Supplier Part Number 1: 311-18.0HRCT-ND; RoHS: RoHS Compliant; Category: Resistors; Stock: 530000; Pricing: 1=0.10, 10=0.015, 100=0.006, 1000=0.0027, 2500=0.0023 (USD); Packaging: Cut Tape (CT); Part Status: Active; Tolerance: ±1%; Power (Watts): 0.1W, 1/10W; Composition: Thick Film; Operating Temperature: -55°C ~ 155°C; Package / Case: 0603 (1608 Metric); Supplier Device Package: 0603; Size / Dimension: 0.063" L x 0.031" W (1.60mm x 0.80mm); Height: 0.022" (0.55mm); Number of Terminations: 2; Failure Rate: -; ComponentLink1URL: http://www.yageo.com/documents/recent/PYu-RC_Group_51_RoHS_L_7.pdf; ComponentLink1Description: http://www.yageo.com/documents/recent/PYu-RC_Group_51_RoHS_L_7.pdf
footprint R1608[0603] small
footprint R1608[0603]
pins: 1, 2

## 22K_0603_1/4W
designator R?, comment 22K
Res,SMD,22k,0603,5%,1/4W; Manufacturer Part Number: ESR03EZPJ223
footprint R1608[0603]
pins: 1, 2

## 30K Resistor 0603
designator R?  (value not drawn)
Thick Film Resistor; Manufacturer: Panasonic Electronic Components; Manufacturer Part Number: ERJ-PA3F3002V; Resistance (Ohms): 30k; Tolerance: ±1%; Power (Watts): 0.25W, 1/4W; Temperature Coefficient: ±100ppm/°C; ID: 19569192; Supplier 1: Digi-Key; Supplier Part Number 1: P30KBYCT-ND; RoHS: RoHS Compliant; Category: Resistors; Stock: 2094; Pricing: 1=0.24, 50=0.1132, 100=0.081, 250=0.06316, 500=0.0502, 1000=0.03563 (CAD); Packaging: Cut Tape (CT); Composition: Thick Film; Features: Automotive AEC-Q200, Pulse Withstanding; Operating Temperature: -55°C ~ 155°C; Package / Case: 0603 (1608 Metric); Supplier Device Package: 0603; Size / Dimension: 0.063" L x 0.031" W (1.60mm x 0.80mm); Height: 0.018" (0.45mm); Number of Terminations: 2; ComponentLink1URL: https://industrial.panasonic.com/cdbs/www-data/pdf/RDA0000/AOA0000C243.pdf; ComponentLink1Description: https://industrial.panasonic.com/cdbs/www-data/pdf/RDA0000/AOA0000C243.pdf; Supplier 2: Arrow; Supplier Part Number 2: gFkPUNfzOZ_26ehhekqwkScCzTPVaDjKtL4GyLmW-60; Package Quantity: 1; ComponentLink2URL: https://www.arrow.com/en/products/erj-pa3f3002v/panasonic/; ComponentLink2Description: https://www.arrow.com/en/products/erj-pa3f3002v/panasonic/
footprint 0603_Resistor (Generic 0603 Surface Mount Resistor)
pins: 1, 1, 2, 2

## 33R Resistor 1206
designator R?  (value not drawn)
3/4W Resistor; Manufacturer: Vishay; Manufacturer Part Number: CRCW120633R0FKEAHP; Brand: Vishay / Dale; Resistance: 33 Ohms; Power Rating: 500 mW (1/2 W); Tolerance: 1 %; Temperature Coefficient: 100 PPM / C; Voltage Rating: 200 V; Case Height: 0.5 mm; Case Length: 3.2 mm; Case Width: 1.6 mm; Unit Weight: 0.000353 oz; Supplier 1: Digikey; Stock 1: 5668; Pricing 1: 1=0.46, 10=0.331, 25=0.2444, 50=0.1802, 100=0.1323, 250=0.1093, 500=0.0901, 1000=0.0652 (USD); Product Category: Thick Film Resistors - SMD; RoHS: Details; Case Code - in: 1206; Case Code - mm: 3216; Operating Temperature Range: - 55 C to + 155 C; Package / Case: 1206 (3216 metric); Packaging: Reel; Product: Thick Film Resistors SMD; Series: CRCW-HP e3; Factory Pack Quantity: 5000; Type: Pulse Proof, High Power Thick Film Chip Resistors; ComponentLink1URL: https://datasheet.ciiva.com/12559/crcwhpe3-46056-12559179.pdf; ComponentLink1Description: https://datasheet.ciiva.com/12559/crcwhpe3-46056-12559179.pdf; Supplier Part Number 1: 541-33.0UCT-ND
footprint 1206
pins: 1, 2

## 40K2_0603_0.1W
designator R?, comment 40K2
Res,SMD,40K2,0603,1%,1/10W; Manufacturer: Philips Mepco; Manufacturer Part Number: RC0603FR-07402KL; TZOA PN: 209-00004; Rad Hard: No; Resistance Value: 40.2 KOhm; Case Style: Molded; Temperature Coefficient: ±100 ppm/°C; Lead Finish: Matte Tin; Supplier 1: Digi-Key; Stock 1: 118802; Pricing 1: 1=0.1, 10=0.015, 100=0.006, 1000=0.0027, 2500=0.0023 (USD); Case Size: 0603; Type: Thick Film; Tolerance: 1 %; Power Rating: 1/10 W; Operating Temperature: -55 to 155 °C; Category: Resistor Fixed Single-Surface Mount; ComponentLink1URL: http://www.yageo.com/documents/recent/PYu-RC0603_51_RoHS_L_5.pdf; ComponentLink1Description: http://www.yageo.com/documents/recent/PYu-RC0603_51_RoHS_L_5.pdf; Supplier Part Number 1: 311-40.2KHRCT-ND
footprint R1608[0603]
footprint R1608[0603] small
pins: 1, 2

## 47R5_0603_0.1W
designator R?, comment 47R5
RES 47.5 Ohm ±1% 0.1W,1/10W 0603; Manufacturer: Yageo; Manufacturer Part Number: RC0603FR-0747R5L; TZOA PN: 209-00005; Supplier 1: Digi-Key; RoHS: RoHS Compliant; Category: Resistors; Pricing 1: 1=0.15, 50=0.019, 100=0.0144, 250=0.01076, 500=0.00794, 1000=0.00529, 2500=0.00446 (CAD); Packaging: Cut Tape (CT); Resistance (Ohms): 47.5Ohm; Tolerance: 1%; Power (Watts): 0.1W, 1/10W; Composition: Thick Film; Features: Automotive AEC-Q200; Temperature Coefficient: -; Operating Temperature: -55°C ~ 155°C; Package / Case: 0603 (1608 Metric); Supplier Device Package: 0603; Size / Dimension: 0.063" L x 0.031" W (1.60mm x 0.80mm); Height: 0.022" (0.55mm); Number of Terminations: 2; Supplier 2: Arrow; Pricing 2: 25000000=0.0021, 50000000=0.0017, 125000000=0.0015, 250000000=0.0014, 625000000=0.0013, 1=0.0023, 25=0.0022 (USD); Package Quantity: 1000; Supplier Part Number 1: 311-47.5HRCT-ND
footprint R1608[0603]
footprint R1608[0603] small
pins: 1, 2

## 54.9K_0603_0.1W
designator R?, comment 54.9K
Res,SMD,1/10W,54.9K,0603,1%; Manufacturer: Panasonic; Manufacturer Part Number: ERJ-PB3D5492V; Tolerance: ±0.5%; Power (Watts): 0.2W, 1/5W; Temperature Coefficient: ±50ppm/°C; Supplier 1: Digikey; Stock 1: 0; Pricing 1: 1=0.28, 50=0.1128, 100=0.0871, 250=0.0677, 500=0.0477, 1000=0.0348 (USD); Category: Resistors; Family: Chip Resistor - Surface Mount; Series: ERJ; Packaging: Tape & Reel (TR); Part Status: Active; Resistance (Ohms): 54.9k; Composition: Thick Film; Features: Automotive AEC-Q200, Pulse Withstanding; Operating Temperature: -55°C ~ 155°C; Package / Case: 0603 (1608 Metric); Supplier Device Package: 0603; Size / Dimension: 0.063" L x 0.032" W (1.60mm x 0.80mm); Height - Seated (Max): 0.022" (0.55mm); Number of Terminations: 2; Failure Rate: -; ComponentLink1URL: https://industrial.panasonic.com/cdbs/www-data/pdf/RDA0000/AOA0000COL70.pdf; ComponentLink1Description: https://industrial.panasonic.com/cdbs/www-data/pdf/RDA0000/AOA0000COL70.pdf; Supplier Part Number 1: P20481CT-ND
footprint R1608[0603]
pins: 1, 2

## 71K5_0603_1/10W
designator R?, comment 71K5  Supplier Part Number 1: 311-71.5KHRCT-ND
RES SMD 71.5K OHM 1% 1/10W 0603; Supplier 1: Digi-Key
pins: 1, 2

## 100K_0603_0.1W
designator R?, comment 100K
Res,SMD,0603,1/10W,100K,1%; Manufacturer: Panasonic Electronic Components; Manufacturer Part Number: ERJ-3EKF1003V; Power (Watts): 0.1W, 1/10W; Temperature Coefficient: ±100ppm/°C; ID: 2248337; Supplier 1: Digi-Key; RoHS: RoHS Compliant; Category: Resistors; Stock 1: 3169201; Pricing 1: 1=0.15, 50=0.0172, 100=0.0126, 250=0.00968, 500=0.00772, 1000=0.00569 (CAD); Packaging: Cut Tape (CT); Tolerance: ±1%; Composition: Thick Film; Features: Automotive AEC-Q200; Operating Temperature: -55°C ~ 155°C; Package / Case: 0603 (1608 Metric); Supplier Device Package: 0603; Size / Dimension: 0.063" L x 0.031" W (1.60mm x 0.80mm); Height: 0.022" (0.55mm); Number of Terminations: 2; ComponentLink1URL: http://industrial.panasonic.com/www-cgi/jvcr13pz.cgi?E+PZ+3+AOA0002+ERJ3EKF1003V+7+WW; ComponentLink1Description: http://industrial.panasonic.com/www-cgi/jvcr13pz.cgi?E+PZ+3+AOA0002+ERJ3EKF1003V+7+WW; Supplier 2: Arrow; Stock 2: 2022544; Pricing 2: 25000000=0.0023, 50000000=0.0021, 125000000=0.0018, 250000000=0.0016, 1=0.0076, 100=0.0045, 500=0.0039, 1000=0.0037, 3000=0.0028 (USD); Package Quantity: 5000; ComponentLink2URL: https://www.arrow.com/en/products/erj3ekf1003v/panasonic/; ComponentLink2Description: https://www.arrow.com/en/products/erj3ekf1003v/panasonic/; Supplier Part Number 1: P100KHCT-ND; Supplier Part Number 2: eZfyx1EtlYvVlf_vmAjt5OXN30qpr715i1xCyp5r5nQ; Resistance (Ohms): 100k
footprint R1608[0603]
pins: 1, 2

## 100k_10555_3W
designator R?, comment 100K  Supplier Part Number 1: A103553CT-ND  Supplier Part Number 2: 279-SMF3100KJT
Res,SMD,10555,3W,5%; Supplier 1: Digi-Key; Supplier 2: Mouser
footprint RESC14034X53N (Chip Resistor, 2-Leads, Body 14.00x3.40mm, IPC Medium Density)
pins: 1, 2

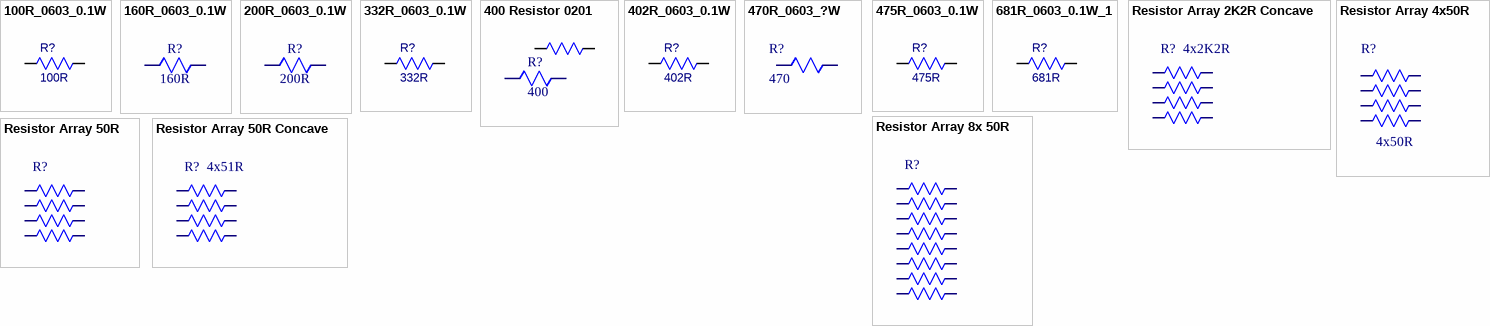
[diagram p1: symbols 100R_0603_0.1W to Resistor Array 50R Concave]

## 100R_0603_0.1W
designator R?, comment 100R
RES 100 Ohm ±1% 0.1W,1/10W 0603; Manufacturer: Philips Mepco; Manufacturer Part Number: RC0603FR-07100RL; TZOA PN: 209-00009; Rad Hard: No; Resistance Value: 100 Ohm; Case Style: Molded; Temperature Coefficient: ±100 ppm/°C; Lead Finish: Matte Tin; Supplier 1: Digi-Key; Stock 1: 4966932; Pricing 1: 1=0.1, 10=0.015, 100=0.006, 1000=0.0027, 2500=0.0023 (USD); Case Size: 0603; Type: Thick Film; Tolerance: 1 %; Power Rating: 1/10 W; Operating Temperature: -55 to 155 °C; Category: Resistor Fixed Single-Surface Mount; ComponentLink1URL: http://www.yageo.com/documents/recent/PYu-RC0603_51_RoHS_L_5.pdf; ComponentLink1Description: http://www.yageo.com/documents/recent/PYu-RC0603_51_RoHS_L_5.pdf; Supplier Part Number 1: 311-100HRCT-ND
footprint R1608[0603]
footprint R1608[0603] small
pins: 1, 2

## 160R_0603_0.1W
designator R?, comment 160R
RES 10K Ohm ±1%  0.125W,1/8W 0603; Manufacturer: Yageo; Manufacturer Part Number: RC0603FR-07160RL; TZOA PN: 209-00001; Resistance: 160 Ohms; Power Rating: 100 mW; Temperature Coefficient: 100 PPM / C; Voltage Rating: 75 V; Unit Weight: 0.000071 oz; Supplier 1: Digi-Key; Stock 1: 56472; Pricing 1: 1=0.1, 10=0.015, 100=0.006, 1000=0.0027, 2500=0.0023 (USD); Product Category: Thick Film Resistors; RoHS: True; Brand: Yageo; Tolerance: 1 %; Case Code - in: 0603; Case Code - mm: 1608; Operating Temperature Range: - 55 C to + 155 C; Series: RC; Height: 0.45 mm; Length: 1.6 mm; Package / Case: 0603 (1608 metric); Packaging: Cut Tape (CT); Product: Thick Film Resistors General Purpose; Termination Style: SMD/SMT; Type: General Purpose Chip Resistor Surface Mount; Width: 0.8 mm; ComponentLink1URL: https://datasheet.ciiva.com/11808/0900766b80f96399-11808753.pdf; ComponentLink1Description: https://datasheet.ciiva.com/11808/0900766b80f96399-11808753.pdf; ComponentLink2URL: https://datasheet.ciiva.com/2454/pyu-r-int-thick-7-2454168.pdf; ComponentLink2Description: https://datasheet.ciiva.com/2454/pyu-r-int-thick-7-2454168.pdf; ComponentLink3URL: https://datasheet.ciiva.com/2454/pyu-r-int-thick-7-2454169.pdf; ComponentLink3Description: https://datasheet.ciiva.com/2454/pyu-r-int-thick-7-2454169.pdf; ComponentLink4URL: https://datasheet.ciiva.com/2454/pyu-r-int-thick-7-2454170.pdf; ComponentLink4Description: https://datasheet.ciiva.com/2454/pyu-r-int-thick-7-2454170.pdf; Supplier Part Number 1: 311-160HRCT-ND
footprint R1608[0603]
footprint R1608[0603] small
pins: 1, 2

## 200R_0603_0.1W
designator R?, comment 200R
RES 200 Ohm 1% 1/10W 0603; Manufacturer: Yageo; Manufacturer Part Number: RC0603FR-07200RL; TZOA PN: 209-; Case Height: 0.45 mm; Case Length: 1.6 mm; Case Width: 0.8 mm; Power Rating: 100 mW; Resistance: 200 Ohms; Temperature Coefficient: 100 PPM / C; Voltage Rating: 50 V; Supplier 1: Digi-Key; Stock 1: 817495; Pricing 1: 1=0.1, 10=0.015, 100=0.006, 1000=0.0027, 2500=0.0023 (USD); Brand: Yageo; Case Code - in: 0603; Case Code - mm: 1608; Dimensions: 0.8 mm W x 1.6 mm L x 0.45 mm H; Operating Temperature Range: - 55 C to + 155 C; Package / Case: 0603 (1608 metric); Packaging: Cut Tape (CT); Product: Thick Film Resistors General Purpose; Factory Pack Quantity: 5000; Termination Style: SMD/SMT; Product Category: Thick Film Resistors; RoHS: Details; Tolerance: 1 %; Series: RC; Type: General Purpose Chip Resistor Surface Mount; ComponentLink1URL: https://datasheet.ciiva.com/46395/443971-46395029.pdf; ComponentLink1Description: https://datasheet.ciiva.com/46395/443971-46395029.pdf; ComponentLink2URL: https://datasheet.ciiva.com/11809/0900766b80f96399-11809240.pdf; ComponentLink2Description: https://datasheet.ciiva.com/11809/0900766b80f96399-11809240.pdf; Supplier Part Number 1: 311-200HRCT-ND
footprint R1608[0603]
footprint R1608[0603] small
pins: 1, 2